# Altium footprint library WE_IQXC-42.PcbLib: 1 footprints
Each footprint in its own frame and in the unit in brackets; x right, y up, seen from the top. Pads: shape width x height; smd on the part's side, far side on the other; paste and mask are expansions set on the pad; w line width, h text height; cw(c..) or ccw(c..) is an arc to the next point about the centre after c.
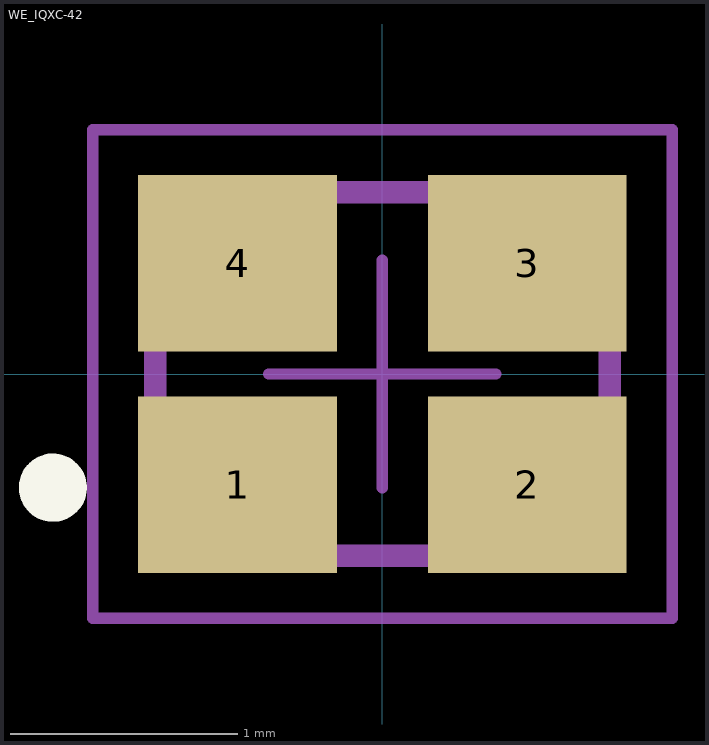
[diagram p0: the footprint, top view; thin cyan lines are the x and y axes]

## WE_IQXC-42 [mm]
pads (4):
  rect 0.875x0.775 smd mask+0.05: 1(-0.637,-0.487) 2(0.638,-0.487) 3(0.638,0.487) 4(-0.637,0.487)
Top Overlay:
  circle w0.15: c-1.45,-0.5 r0.075
Top Designator:
  text ".Designator" at -3.499,-0.233 h0.7
Top Component Outline:
  circle w0.075: c-0.6,-0.4 r0.15
  lines w0.1: -1,-0.8 1,-0.8 1,0.8 -1,0.8 -1,-0.8
Top 3D Body:
  lines w0.1: -1,-0.8 -1,0.8 1,0.8 1,-0.8 -1,-0.8
Top Courtyard:
  lines w0.05: -0.5,0 0.5,0 ; 0,-0.5 0,0.5 ; -1.275,-1.075 -1.275,1.075 1.275,1.075 1.275,-1.075 -1.275,-1.075
3D body "FrqXTAL_IQXC-42.stp": height 0.5, standoff 0, extent -1,-0.8 1,0.8